# Altium footprint library Pcblib_20110825.Pcblib: 408 footprints (part 20 of 26)
Each footprint in its own frame and in the unit in brackets; x right, y up, seen from the top. Pads: shape width x height; smd on the part's side, far side on the other; paste and mask are expansions set on the pad; w line width, h text height; cw(c..) or ccw(c..) is an arc to the next point about the centre after c.
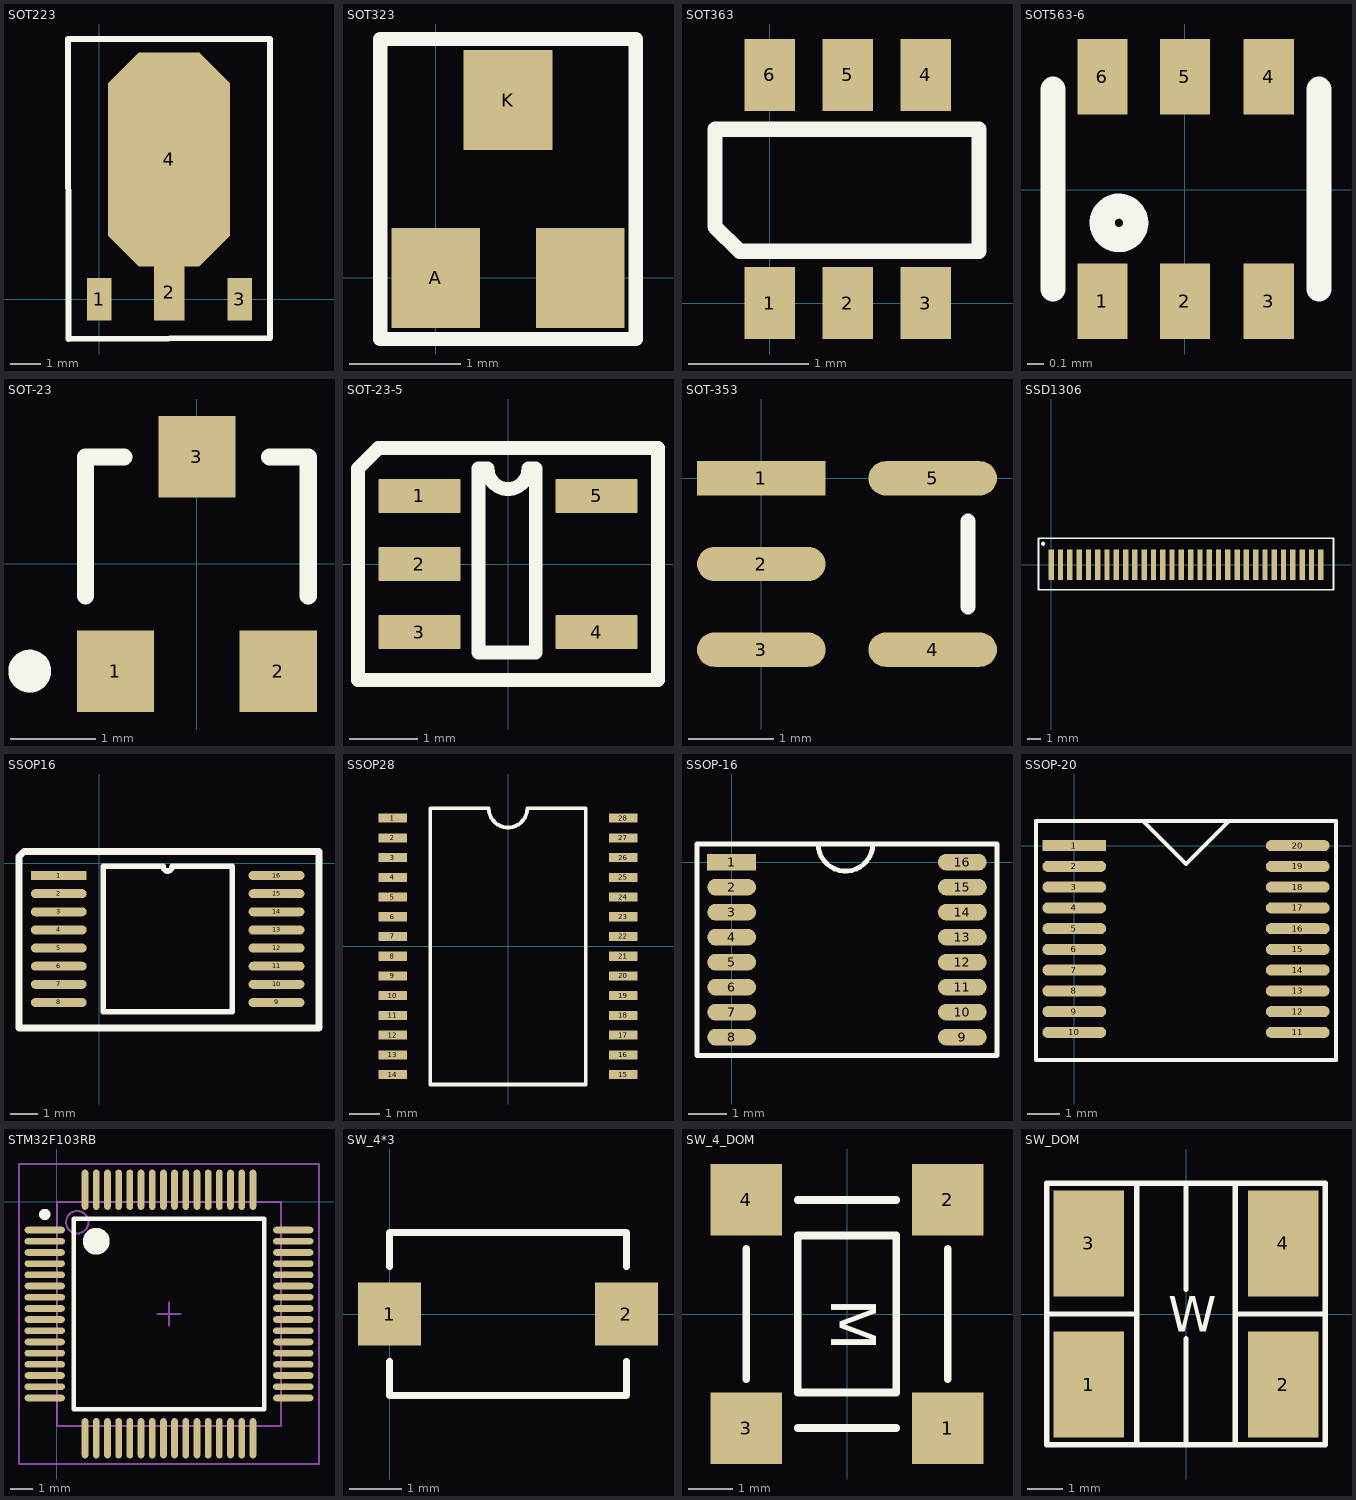
[diagram p19: the footprints below, top view; thin cyan lines are the x and y axes]

## SOT223 [mm]
height 11.1
pads (4):
  rect 0.8x1.4 smd: 1(0,0) 3(4.6,0)
  rect 1x1.854 smd: 2(2.3,0.227)
  oct 4x7 smd: 4(2.286,4.572)
TopOverlay:
  lines w0.2: -1.016,8.509 -1,-1.3 5.588,-1.27 5.588,8.509 -1.016,8.509

## SOT323 [mm]
pads (3):
  rect 0.8x0.9 smd: A(0,0) K(0.65,1.6) ""(1.3,0)
TopOverlay:
  lines w0.127: -0.5,-0.55 -0.5,2.15 1.8,2.15 1.8,-0.55 -0.5,-0.55

## SOT363 [mm]
pads (6):
  rect 0.42x0.6 smd: 1(0,0) 2(0.65,0) 3(1.3,0) 4(1.3,1.9) 5(0.65,1.9) 6(0,1.9)
TopOverlay:
  lines w0.127: -0.457,0.635 -0.457,1.448 1.743,1.448 1.743,0.432 -0.254,0.432 -0.457,0.635

## SOT563-6 [mil] "SOT563-6"
pads (6):
  rect 12x18 smd: 1(-19.68,-26.57) 2(0,-26.57) 3(20,-26.57) 4(20,27) 5(0,27) 6(-19.68,27)
TopOverlay:
  circle w6: c-15.75,-7.87 r4
  lines w6: -31.5,-23.62 -31.5,24 ; 32,-23.62 32,24

## SOT-23 [mm] "SOT-23; 3 Leads; Body 3.0 x 2.6 mm, inc. leads (LxW max)"
height 1.1
pads (3):
  rect 0.9x0.95 smd: 1(-0.95,-1.25) 2(0.95,-1.25) 3(0,1.25)
TopOverlay:
  circle w0.25: c-1.95,-1.25 r0.125
  lines w0.2: -1.3,-0.375 -1.3,1.25 -0.85,1.25 ; 0.85,1.25 1.3,1.25 1.3,-0.375

## SOT-23-5 [mm]
height 1.76
pads (5):
  rect 1.2x0.5 smd: 1(-1.3,1) 2(-1.3,0) 3(-1.3,-1) 4(1.3,-1) 5(1.3,1)
TopOverlay:
  lines w0.203: -2.2,-1.7 2.2,-1.7 2.2,1.7 -1.9,1.7 -2.2,1.4 -2.2,-1.7 ; -0.432,-1.3 0.406,-1.3 0.406,1.4 0.3,1.4 cw(c0,1.4) -0.3,1.4 -0.432,1.4 -0.432,-1.3

## SOT-353 [mm]
pads (5):
  rect 1.5x0.4 smd: 1(0,0)
  oval 1.5x0.4 smd: 2(0,-1) 3(0,-2) 4(2,-2) 5(2,0)
TopOverlay:
  lines w0.178: 2.413,-1.5 2.413,-0.5

## SSD1306 [mm]
pads (30):
  rect 0.4x2.3 smd: 1(0,0) 2(0.7,0) 3(1.4,0) 4(2.1,0) 5(2.8,0) 6(3.5,0) 7(4.2,0) 8(4.9,0) 9(5.6,0) 10(6.3,0) 11(7,0) 12(7.7,0) 13(8.4,0) 14(9.1,0) 15(9.8,0) 16(10.5,0) 17(11.2,0) 18(11.9,0) 19(12.6,0) 20(13.3,0) 21(14,0) 22(14.7,0) 23(15.4,0) 24(16.1,0) 25(16.8,0) 26(17.5,0) 27(18.2,0) 28(18.9,0) 29(19.6,0) 30(20.3,0)
TopOverlay:
  circle w0.254: c-0.61,1.575 r0.025
  lines w0.127: -0.965,-1.88 -0.965,1.981 21.26,1.981 21.26,-1.88 -0.965,-1.88

## SSOP16 [mm] "SOP, 16-Leads, Body 5.1x4.5mm (max), Pitch 0.65mm, IPC Medium Density"
height 0.6
pads (16):
  rect 2x0.32 smd: 1(-1.448,-0.432)
  oval 2x0.32 smd: 2(-1.448,-1.082) 3(-1.448,-1.732) 4(-1.448,-2.382) 5(-1.448,-3.032) 6(-1.448,-3.682) 7(-1.448,-4.332) 8(-1.448,-4.982) 9(6.352,-4.982) 10(6.352,-4.332) 11(6.352,-3.682) 12(6.352,-3.032) 13(6.352,-2.382) 14(6.352,-1.732) 15(6.352,-1.082) 16(6.352,-0.432)
TopOverlay:
  lines w0.2: 0.137,-5.307 4.767,-5.307 4.767,-0.107 2.615,-0.107 cw(c2.452,-0.107) 2.29,-0.107 0.137,-0.107 0.137,-5.307
  lines w0.254: -2.875,-5.9 -2.875,0.25 -2.7,0.425 7.875,0.425 7.875,-5.9 -2.875,-5.9

## SSOP28 [mm]
pads (28):
  rect 0.95x0.3 smd: 1(-3.8,4.225) 2(-3.8,3.575) 3(-3.8,2.925) 4(-3.8,2.275) 5(-3.8,1.625) 6(-3.8,0.975) 7(-3.8,0.325) 8(-3.8,-0.325) 9(-3.8,-0.975) 10(-3.8,-1.625) 11(-3.8,-2.275) 12(-3.8,-2.925) 13(-3.8,-3.575) 14(-3.8,-4.225) 15(3.8,-4.225) 16(3.8,-3.575) 17(3.8,-2.925) 18(3.8,-2.275) 19(3.8,-1.625) 20(3.8,-0.975) 21(3.8,-0.325) 22(3.8,0.325) 23(3.8,0.975) 24(3.8,1.625) 25(3.8,2.275) 26(3.8,2.925) 27(3.8,3.575) 28(3.8,4.225)
TopOverlay:
  lines w0.127: -2.563,-4.55 2.563,-4.55 2.563,4.55 0.635,4.55 cw(c0,4.55) -0.635,4.55 -2.563,4.55 -2.563,-4.55

## SSOP-16 [mm]
pads (16):
  rect 1.27x0.432 smd: 1(0,0)
  oval 1.27x0.432 smd: 2(0,-0.65) 3(0,-1.3) 4(0,-1.95) 5(0,-2.6) 6(0,-3.25) 7(0,-3.9) 8(0,-4.55) 9(6,-4.55) 10(6,-3.9) 11(6,-3.25) 12(6,-2.6) 13(6,-1.95) 14(6,-1.3) 15(6,-0.65) 16(6,0)
TopOverlay:
  lines w0.127: 2.25,0.475 ccw(c2.961,0.475) 3.672,0.475 ; -0.9,-5.025 6.9,-5.025 6.9,0.475 -0.9,0.475 -0.9,-5.025

## SSOP-20 [mm]
pads (20):
  rect 2x0.35 smd: 1(0,0)
  oval 2x0.35 smd: 2(0,-0.65) 3(0,-1.3) 4(0,-1.95) 5(0,-2.6) 6(0,-3.25) 7(0,-3.9) 8(0,-4.55) 9(0,-5.2) 10(0,-5.85) 11(7,-5.85) 12(7,-5.2) 13(7,-4.55) 14(7,-3.9) 15(7,-3.25) 16(7,-2.6) 17(7,-1.95) 18(7,-1.3) 19(7,-0.65) 20(7,0)
TopOverlay:
  lines w0.127: 2.147,0.778 3.5,-0.575 4.853,0.778 ; -1.199,-6.722 8.199,-6.722 8.199,0.778 -1.199,0.778 -1.199,-6.722

## STM32F103RB [mm]
height 1.1
pads (64):
  oval 1.8x0.3 smd: 1(-0.538,-1.262) 2(-0.538,-1.762) 3(-0.538,-2.262) 4(-0.538,-2.762) 5(-0.538,-3.262) 6(-0.538,-3.762) 7(-0.538,-4.262) 8(-0.538,-4.762) 9(-0.538,-5.262) 10(-0.538,-5.762) 11(-0.538,-6.262) 12(-0.538,-6.762) 13(-0.538,-7.262) 14(-0.538,-7.762) 15(-0.538,-8.262) 16(-0.538,-8.762) 33(10.562,-8.762) 34(10.562,-8.262) 35(10.562,-7.762) 36(10.562,-7.262) 37(10.562,-6.762) 38(10.562,-6.262) 39(10.562,-5.762) 40(10.562,-5.262) 41(10.562,-4.762) 42(10.562,-4.262) 43(10.562,-3.762) 44(10.562,-3.262) 45(10.562,-2.762) 46(10.562,-2.262) 47(10.562,-1.762) 48(10.562,-1.262)
  oval 0.3x1.8 smd: 17(1.262,-10.562) 18(1.762,-10.562) 19(2.262,-10.562) 20(2.762,-10.562) 21(3.262,-10.562) 22(3.762,-10.562) 23(4.262,-10.562) 24(4.762,-10.562) 25(5.262,-10.562) 26(5.762,-10.562) 27(6.262,-10.562) 28(6.762,-10.562) 29(7.262,-10.562) 30(7.762,-10.562) 31(8.262,-10.562) 32(8.762,-10.562) 49(8.762,0.538) 50(8.262,0.538) 51(7.762,0.538) 52(7.262,0.538) 53(6.762,0.538) 54(6.262,0.538) 55(5.762,0.538) 56(5.262,0.538) 57(4.762,0.538) 58(4.262,0.538) 59(3.762,0.538) 60(3.262,0.538) 61(2.762,0.538) 62(2.262,0.538) 63(1.762,0.538) 64(1.262,0.538)
TopOverlay:
  circle w0.6: c1.762,-1.762 r0.3
  circle w0.25: c-0.538,-0.562 r0.125
  lines w0.2: 0.762,-9.262 9.262,-9.262 9.262,-0.762 0.762,-0.762 0.762,-9.262
Mechanical13:
  circle w0.1: c0.912,-0.912 r0.5
  lines w0.1: 0.012,-10.012 10.012,-10.012 10.012,-0.012 0.012,-0.012 0.012,-10.012
Mechanical15:
  lines w0.1: 4.512,-5.012 5.512,-5.012 ; 5.012,-5.512 5.012,-4.512 ; -1.688,-11.712 11.712,-11.712 11.712,1.688 -1.688,1.688 -1.688,-11.712

## SW_4*3 [mm]
pads (2):
  rect 1.2x1.2 smd: 1(0,0) 2(4.5,0)
TopOverlay:
  lines w0.127: 0,-0.9 0,-1.55 4.5,-1.55 4.5,-0.9 ; 0,0.9 0,1.55 4.5,1.55 4.5,0.9

## SW_4_DOM [mm]
pads (4):
  rect 1.6x1.6 smd: 1(2.25,-2.55) 2(2.25,2.55) 3(-2.25,-2.55) 4(-2.25,2.55)
TopOverlay:
  lines w0.178: -2.25,-1.45 -2.25,1.45 ; -1.1,-2.55 1.1,-2.55 ; -1.1,2.55 1.1,2.55 ; 2.25,-1.45 2.25,1.45 ; -1.1,-1.75 -1.1,1.75 1.1,1.75 1.1,-1.75 -1.1,-1.75
  text "M" at -0.356,0.356 h1

## SW_DOM [mm]
pads (4):
  rect 2x3 smd: 1(-2.75,-2) 2(2.75,-2) 3(-2.75,2) 4(2.75,2)
TopOverlay:
  lines w0.152: -3.95,0 -1.4,0 ; -1.4,-3.7 -1.4,0 ; -1.4,3.7 -1.4,0 ; 0,-3.7 0,-0.7 ; 0,0.7 0,3.7 ; 1.4,-3.7 1.4,0 ; 1.4,3.7 1.4,0 ; 3.95,0 1.4,0 ; -3.95,-3.7 3.95,-3.7 3.95,3.7 -3.95,3.7 -3.95,-3.7
  text "W" at -0.508,-0.508 h1.02